# EAGLE library part PAN1740 (library panasonic-pan1740)
Bluetooth Low Energy (BLE), also called Bluetooth Smart, is a part of Bluetooth Ver. 4.0, BT v4.0 covers both BLE as well as Classic Bluetooth v2.1 and v3.0. Bluetooth Low Energy (BLE) is not backwards compatible with previous Classic Bluetooth standards (v2.1+EDR or v3.0). Dual mode Bluetooth v4.0 is targeted to gateway products and backwards compatible, but is not practical for low power devices. The library has been designed by Richard Magdycz <https://www.facebook.com/groups/eaglecadsoftUK>
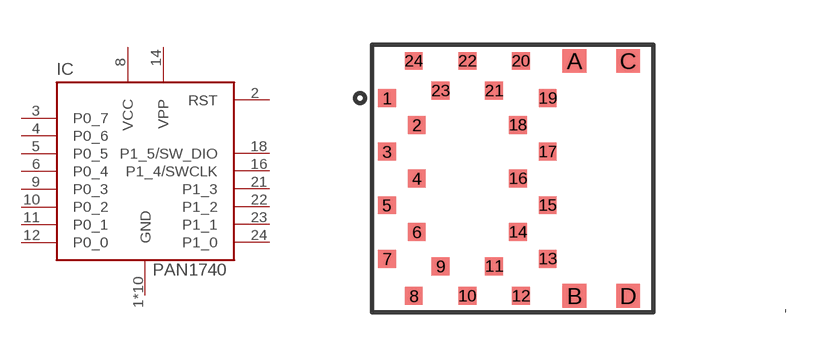
[diagram p0: symbol with the pads of PAN1740; footprint PAN1740]

Designator prefix IC

## PAN1740  [PAN1740]
1  GND  pwr
2  RST
3  P0_7
4  P0_6
5  P0_5
6  P0_4
7  GND  pwr
8  VCC
9  P0_3
10  P0_2
11  P0_1
12  P0_0
14  VPP  pwr
15  GND  pwr
16  P1_4/SWCLK
17  GND  pwr
18  P1_5/SW_DIO
19  GND  pwr
20  GND  pwr
21  P1_3
22  P1_2
23  P1_1
24  P1_0
A  GND  pwr
B  GND  pwr
C  GND  pwr
D  GND  pwr

## Footprint PAN1740 (pad centres in mm)
smd 0.6 x 0.6: 1 -4.2,2.7; 2 -3.2,1.8; 3 -4.2,0.9; 4 -3.2,0; 5 -4.2,-0.9; 6 -3.2,-1.8; 7 -4.2,-2.7; 8 -3.3,-3.95; 9 -2.4,-2.95; 10 -1.5,-3.95; 11 -0.6,-2.95; 12 0.3,-3.95; 13 1.2,-2.7; 14 0.2,-1.8; 15 1.2,-0.9; 16 0.2,0; 17 1.2,0.9; 18 0.2,1.8; 19 1.2,2.7; 20 0.3,3.95; 21 -0.6,2.95; 22 -1.5,3.95; 23 -2.4,2.95; 24 -3.3,3.95
smd 0.8 x 0.8: A 2.1,3.95; B 2.1,-3.95; C 3.9,3.95; D 3.9,-3.95